# Altium schematic symbol library WCAM-BREAKOUT-PCB_r0.3_release.SCHLIB: 34 symbols
Pins are listed as number, name and electrical type; pins without a type are passive.

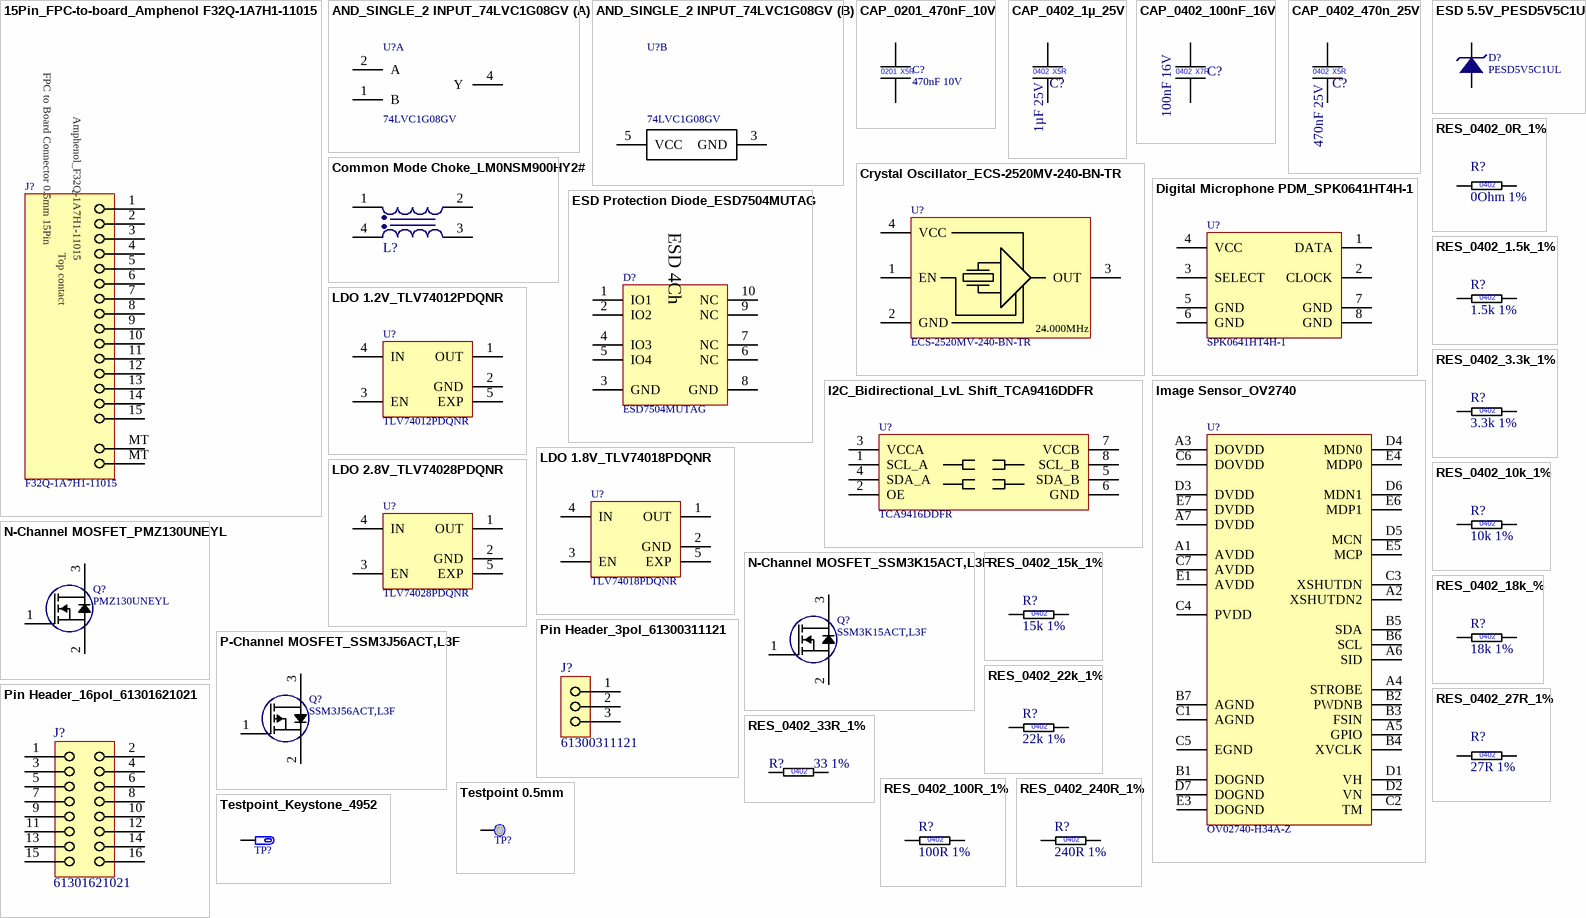
[diagram p0: symbols 15Pin_FPC-to-board_Amphenol F32Q-1A7H1-11015 to Testpoint_Keystone_4952]

## 15Pin_FPC-to-board_Amphenol F32Q-1A7H1-11015
designator J?, comment F32Q-1A7H1-11015
Flex Connector, 0.50mm Pitch, Height 2.00mm, Right angle, Slider type, ZIF, Upper contact, 15 position , Without MYLAR; Manufacturer 1: Amphenol FCI; Manufacturer 1 Prt. Nr.: F32Q-1A7H1-11015
footprint FFC 15pol 0.5mm F32Q-1A7H1-11015 (Flex Connector, 0.50mm Pitch, Height 2.00mm, Right angle, Slider type, ZIF, Upper contact, 15 position , Without MYLAR)
pins: 1, 2, 3, 4, 5, 6, 7, 8, 9, 10, 11, 12, 13, 14, 15, MT, MT
text: FPC to Board Connector 0.5mm 15Pin; Amphenol_F32Q-1A7H1-11015; Top contact

## AND_SINGLE_2 INPUT_74LVC1G08GV
designator U?, comment 74LVC1G08GV
Single 2-input AND gate; Manufacturer 1: Nexperia; Manufacturer 1 Prt. Nr.: 74LVC1G08GV
footprint SOT95P275X110-5N (SOT23, 5-Leads, Body 2,90x2,75mm, Pitch 0,95mm, IPC Medium Density)
part A pins: 1 B, 2 A, 4 Y
part B pins: 3 GND, 5 VCC

## CAP_0201_470nF_10V
designator C?, comment 470nF 10V
Multilayer Ceramic Capacitors MLCC - SMD/SMT 0201 10VDC; Manufacturer 1: Taiyo Yuden; Manufacturer 1 Prt. Nr.: LMK063BBJ474KPLF; Manufacturer 2 Prt. Nr.: C0603X5R1A474M030BC; Manufacturer 2: TDK
footprint CAPC0603X03L (Chip Capacitor, 2-Leads, Body 0,60x0,30mm, IPC High Density)
pins: 1, 2
text: 0201; X5R

## CAP_0402_1µ_25V
designator C?, comment 1µF 25V
Multilayer Ceramic Capacitors MLCC - SMD/SMT 0402 25VDC; Manufacturer 1: Murata Electronics; Manufacturer 1 Prt. Nr.: GRM155R61E105KE11D; Manufacturer 2 Prt. Nr.: 0402X105K250CT; Manufacturer 2: Walsin
footprint CAPC1005X06L (Chip Capacitor, 2-Leads, Body 1,00x0,50mm, IPC High Density)
pins: 1, 2
text: 0402; X5R

## CAP_0402_100nF_16V
designator C?, comment 100nF 16V
Multilayer Ceramic Capacitors MLCC - SMD/SMT 0402 16VDC; Manufacturer 1: KYOCERA AVX; Manufacturer 1 Prt. Nr.: KGM05AR71C104KH; Manufacturer 2 Prt. Nr.: EMK105B7104KV-F; Manufacturer 2: Taiyo Yuden
footprint CAPC1005X06L (Chip Capacitor, 2-Leads, Body 1,00x0,50mm, IPC High Density)
pins: 1, 2
text: 0402; X7R

## CAP_0402_470n_25V
designator C?, comment 470nF 25V
Multilayer Ceramic Capacitors MLCC - SMD/SMT 0402 25VDC; Manufacturer 1: Murata Electronics; Manufacturer 1 Prt. Nr.: GRM155R61E474KE01D; Manufacturer 2 Prt. Nr.: 0603X474K250CT; Manufacturer 2: Walsin
footprint CAPC1005X06L (Chip Capacitor, 2-Leads, Body 1,00x0,50mm, IPC High Density)
pins: 1, 2
text: 0402; X5R

## Common Mode Choke_LM0NSM900HY2#
designator L?, comment 90Ohm 100mA  (value not drawn)
Murata Common Mode Choke 90Ohm 100mA for ,USB2.0,USB3.1 Gen1,USB3.1 Gen2,MIPI D-PHY Ver1.1,MIPI D-PHY Ver1.2,HDMI 1.4b; Manufacturer 1: Murata Electronics; Manufacturer 1 Prt. Nr.: DLM0NSM900HY2D
footprint CAF-50P85X64-4N (Chip Array, Flat, 4-Leads, Pitch 0,50mm,  Body 0,85x0,65mm,  IPC Medium Density)
pins: 1, 2, 3, 4

## Crystal Oscillator_ECS-2520MV-240-BN-TR
designator U?, comment ECS-2520MV-240-BN-TR
Crystal Oscillator 2520 miniature SMD package; Manufacturer 1: ECS; Manufacturer 1 Prt. Nr.: ECS-2520MV-240-BN-TR
footprint Oscillator_ECS-2520MV (miniature SMD HCMOS Oscillator with MultiVolt capability)
pins: 1 EN, 2 GND, 3 OUT, 4 VCC
text: 24.000MHz

## Digital Microphone PDM_SPK0641HT4H-1
designator U?, comment SPK0641HT4H-1
Digital MEMS Microphone Top Port PDM SPK0641HT4H-1; Manufacturer 1: Knowles; Manufacturer 1 Prt. Nr.: SPK0641HT4H-1
footprint MIC_SPK0641HT4H-1 (Digital SiSonic Microphone)
pins: 1 DATA, 2 CLOCK, 3 SELECT, 4 VCC, 5 GND, 6 GND, 7 GND, 8 GND

## ESD 5.5V_PESD5V5C1UL
designator D?, comment PESD5V5C1UL
ESD Diode 5.5V working voltage DFN1006-2; Manufacturer 1: Nexperia; Manufacturer 1 Prt. Nr.: PESD5V5C1UL
footprint DFN65P100X50-2N (DFN, 2-Leads, Body 0,60x1,00mm, Pitch 0,65mm, IPC Medium Density)
pins: 1, 2

## ESD Protection Diode_ESD7504MUTAG
designator D?, comment ESD7504MUTAG
ESD-Entstörer/TVS-Dioden LOW CAP ESD Protection; Manufacturer 1: onsemi; Manufacturer 1 Prt. Nr.: ESD7504MUTAG
footprint QFN50P250X100X55-10L (QFN, 10-Leads, Body 2,50x1,00mm, Pitch 0,50mm, IPC High Density)
pins: 1 IO1, 2 IO2, 3 GND, 4 IO3, 5 IO4, 6 NC, 7 NC, 8 GND, 9 NC, 10 NC
text: ESD 4Ch

## I2C_Bidirectional_LvL Shift_TCA9416DDFR
designator U?, comment TCA9416DDFR
Ultra-low voltage I2C translator with rise time accelerators; Manufacturer 1: Texas Instruments; Manufacturer 1 Prt. Nr.: TCA9416DDFR
footprint TSOP65P280X110-8N (TSOP, 8-Leads, Body 2,90x1,60mm, Pitch 0,65mm, IPC Medium Density)
pins: 1 SCL_A, 2 OE, 3 VCCA, 4 SDA_A, 5 SDA_B, 6 GND, 7 VCCB, 8 SCL_B

## Image Sensor_OV2740
designator U?, comment OV02740-H34A-Z
MIPI CSI Image Sensor 1080p 1/6"; Manufacturer 1 Prt. Nr.: OmniVision; Manufacturer 1: OV02740-H34A-Z
footprint BGA34C53P7X5_386X292X388 (BGA, 34-Leads, Body 3,86x2,92mmx3,88mm, Pitch 0,53mm)
pins: A1 AVDD, A2 XSHUTDN2, A3 DOVDD, A4 STROBE, A5 GPIO, A6 SID, A7 DVDD, B1 DOGND, B2 PWDNB, B3 FSIN, B4 XVCLK, B5 SDA, B6 SCL, B7 AGND, C1 AGND, C2 TM, C3 XSHUTDN, C4 PVDD, C5 EGND, C6 DOVDD, C7 AVDD, D1 VH, D2 VN, D3 DVDD, D4 MDN0, D5 MCN, D6 MDN1, D7 DOGND, E1 AVDD, E3 DOGND, E4 MDP0, E5 MCP, E6 MDP1, E7 DVDD

## LDO 1.2V_TLV74012PDQNR
designator U?, comment TLV74012PDQNR
LDO voltage regulator 300mA X2SON; Manufacturer 1: Texas Instruments; Manufacturer 1 Prt. Nr.: TLV74012PDQNR
footprint X2SON-DFN (X2SON small outline to lead)
pins: 1 OUT, 2 GND, 3 EN, 4 IN, 5 EXP

## LDO 1.8V_TLV74018PDQNR
designator U?, comment TLV74018PDQNR
LDO voltage regulator 300mA X2SON; Manufacturer 1: Texas Instruments; Manufacturer 1 Prt. Nr.: TLV74018PDQNR
footprint X2SON-DFN (X2SON small outline to lead)
pins: 1 OUT, 2 GND, 3 EN, 4 IN, 5 EXP

## LDO 2.8V_TLV74028PDQNR
designator U?, comment TLV74028PDQNR
LDO voltage regulator 300mA X2SON; Manufacturer 1: Texas Instruments; Manufacturer 1 Prt. Nr.: TLV74028PDQNR
footprint X2SON-DFN (X2SON small outline to lead)
pins: 1 OUT, 2 GND, 3 EN, 4 IN, 5 EXP

## N-Channel MOSFET_PMZ130UNEYL
designator Q?, comment PMZ130UNEYL
MOSFET PMZ130UNE/SOT883/XQFN3; Manufacturer 1: Nexperia; Manufacturer 1 Prt. Nr.: PMZ130UNEYL
footprint DFN65P98X50-3N (DFN, 3-Leads, Body 0,59x0,99mm, Pitch 0,65mm, IPC Medium Density)
pins: 1 G, 2 S, 3 D

## N-Channel MOSFET_SSM3K15ACT,L3F
designator Q?, comment SSM3K15ACT,L3F
MOSFET 30V SGL N-CH TRENCHMOS Logic Level; Manufacturer 1: Toshiba; Manufacturer 1 Prt. Nr.: SSM3K15ACT,L3F
footprint DFN65P100X50-3L (DFN, 3-Leads, Body 0,60x1,00mm, Pitch 0,65mm, IPC High Density)
pins: 1 G, 2 S, 3 D

## P-Channel MOSFET_SSM3J56ACT,L3F
designator Q?, comment SSM3J56ACT,L3F
MOSFET 20V SGL P-CH TRENCHMOS Logic Level; Manufacturer 1: Toshiba; Manufacturer 1 Prt. Nr.: SSM3J56ACT,L3F
footprint DFN65P100X50-3L (DFN, 3-Leads, Body 0,60x1,00mm, Pitch 0,65mm, IPC High Density)
pins: 1 G, 2 S, 3 D

## Pin Header_3pol_61300311121
designator J?, comment 61300311121
Pin Header 3 Pol 2.54mm; Manufacturer 1: Würth elektronik; Manufacturer 1 Prt. Nr.: 61300311121
footprint BOARD TO BOARD Pinheader WE_61300311121 (Pin Header, pitch 2.54 mm, THT, Vertical, single row, 3p)
pins: 1, 2, 3

## Pin Header_16pol_61301621021
designator J?, comment 61301621021
Pin Header 3 Pol 2.54mm; Manufacturer 1: Würth elektronik; Manufacturer 1 Prt. Nr.: 61301621021
footprint BOARD TO BOARD Pinheader WE_61301621021 (Pin Header, pitch 2.54 mm, THT, Angled, dual row, 16p)
pins: 1, 2, 3, 4, 5, 6, 7, 8, 9, 10, 11, 12, 13, 14, 15, 16

## RES_0402_0R_1%
designator R?, comment 0Ohm 1%
Thick Film Resistors - SMD 0OHM 1%; Manufacturer 1: Bourns; Manufacturer 1 Prt. Nr.: CR0402AJ/-000GAS; Manufacturer 2 Prt. Nr.: AC0402FR-070RL; Manufacturer 2: YAGEO
footprint RESC1005X04L (Chip Resistor, 2-Leads, Body 1,00x0,53mm, IPC High Density)
pins: 1, 2
text: 0402

## RES_0402_1.5k_1%
designator R?, comment 1.5k 1%
Thick Film Resistors - SMD 1.5k 1%; Manufacturer 1: Vishay / Dale; Manufacturer 1 Prt. Nr.: CRCW04021K50FKED; Manufacturer 2 Prt. Nr.: RC0402FR-131K5L; Manufacturer 2: YAGEO
footprint RESC1005X04L (Chip Resistor, 2-Leads, Body 1,00x0,53mm, IPC High Density)
pins: 1, 2
text: 0402

## RES_0402_3.3k_1%
designator R?, comment 3.3k 1%
Thick Film Resistors - SMD 3.3k 1%; Manufacturer 1: Bourns; Manufacturer 1 Prt. Nr.: CR0402-FX-3301GLF; Manufacturer 2 Prt. Nr.: RC0402FR-7D3K3L; Manufacturer 2: YAGEO
footprint RESC1005X04L (Chip Resistor, 2-Leads, Body 1,00x0,53mm, IPC High Density)
pins: 1, 2
text: 0402

## RES_0402_10k_1%
designator R?, comment 10k 1%
Thick Film Resistors - SMD 10k 1%; Manufacturer 1: Vishay / Dale; Manufacturer 1 Prt. Nr.: CRCW040210K0FKEDC; Manufacturer 2 Prt. Nr.: RT0402FRE0710KL; Manufacturer 2: YAGEO
footprint RESC1005X04L (Chip Resistor, 2-Leads, Body 1,00x0,53mm, IPC High Density)
pins: 1, 2
text: 0402

## RES_0402_15k_1%
designator R?, comment 15k 1%
Thick Film Resistors - SMD 15k 1%; Manufacturer 1: Vishay / Dale; Manufacturer 1 Prt. Nr.: CRCW040215K0FKED; Manufacturer 2 Prt. Nr.: RT0402FRE0715KL; Manufacturer 2: YAGEO
footprint RESC1005X04L (Chip Resistor, 2-Leads, Body 1,00x0,53mm, IPC High Density)
pins: 1, 2
text: 0402

## RES_0402_18k_%
designator R?, comment 18k 1%
Thick Film Resistors - SMD 18k 1%; Manufacturer 1: Bourns; Manufacturer 1 Prt. Nr.: CR0402-FX-1802GLF; Manufacturer 2 Prt. Nr.: CRCW040218K0FKEDC; Manufacturer 2: Vishay
footprint RESC1005X04L (Chip Resistor, 2-Leads, Body 1,00x0,53mm, IPC High Density)
pins: 1, 2
text: 0402

## RES_0402_22k_1%
designator R?, comment 22k 1%
Thick Film Resistors - SMD 22k 1%; Manufacturer 1: Vishay / Dale; Manufacturer 1 Prt. Nr.: CRCW040222K0FKED; Manufacturer 2 Prt. Nr.: RC0402FR-0722KL; Manufacturer 2: YAGEO
footprint RESC1005X04L (Chip Resistor, 2-Leads, Body 1,00x0,53mm, IPC High Density)
pins: 1, 2
text: 0402

## RES_0402_27R_1%
designator R?, comment 27R 1%
Thick Film Resistors - SMD 27R 1%; Manufacturer 1: YAGEO; Manufacturer 1 Prt. Nr.: RC0402FR-0727RL; Manufacturer 2 Prt. Nr.: CRGCQ0402F27R; Manufacturer 2: TE Connectivity Passive Product
footprint RESC1005X04L (Chip Resistor, 2-Leads, Body 1,00x0,53mm, IPC High Density)
pins: 1, 2
text: 0402

## RES_0402_33R_1%
designator R?, comment 33 1%
Thick Film Resistors - SMD 33 Ohm 1%; Manufacturer 1: Panasonic; Manufacturer 1 Prt. Nr.: ERJ-S02F33R0X; Manufacturer 2 Prt. Nr.: CRCW040233R0FKED; Manufacturer 2: Vishay / Dale
footprint RESC1005X04L (Chip Resistor, 2-Leads, Body 1,00x0,53mm, IPC High Density)
pins: 1, 2
text: 0402

## RES_0402_100R_1%
designator R?, comment 100R 1%
Thick Film Resistors - SMD 100R 1%; Manufacturer 1: Vishay / Dale; Manufacturer 1 Prt. Nr.: CRCW0402100RFKEDC; Manufacturer 2 Prt. Nr.: RC0402FR-07100RL; Manufacturer 2: YAGEO
footprint RESC1005X04L (Chip Resistor, 2-Leads, Body 1,00x0,53mm, IPC High Density)
pins: 1, 2
text: 0402

## RES_0402_240R_1%
designator R?, comment 240R 1%
Thick Film Resistors - SMD 240 OHM 1%; Manufacturer 1: Yageo; Manufacturer 1 Prt. Nr.: RC0402FR-07240RL; Manufacturer 2 Prt. Nr.: CR0402-FX-2400GLF; Manufacturer 2: Bourns
footprint RESC1005X04L (Chip Resistor, 2-Leads, Body 1,00x0,53mm, IPC High Density)
pins: 1, 2
text: 0402

## Testpoint 0.5mm
designator TP?  (value not drawn)  (no BOM)
footprint TP_0.50mm (Testpoint 0.50mm diameter)
pins: TP

## Testpoint_Keystone_4952
designator TP?, comment 4952  (value not drawn)
Loop Type THM Test Point P/N 4952; Manufacturer 1: Keystone; Manufacturer 1 Prt. Nr.: 4952
footprint TP_Keystone_4952 (Loop Type THM Test Point P/N 4952)
pins: TP